# Altium schematic symbol library USB2_5Pin.Schlib: 1 symbol
Pins are listed as number, name and electrical type; pins without a type are passive.

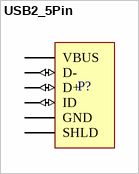
[diagram p0: symbol USB2_5Pin]

## USB2_5Pin
designator P?
USB 1 1.1 2.0 with ID
pins: 1 VBUS (power), 2 D- (io), 3 D+ (io), 4 ID (io), 5 GND (power), 6 SHLD (power)